# EAGLE library part PCA9685 (library mille-feuille)
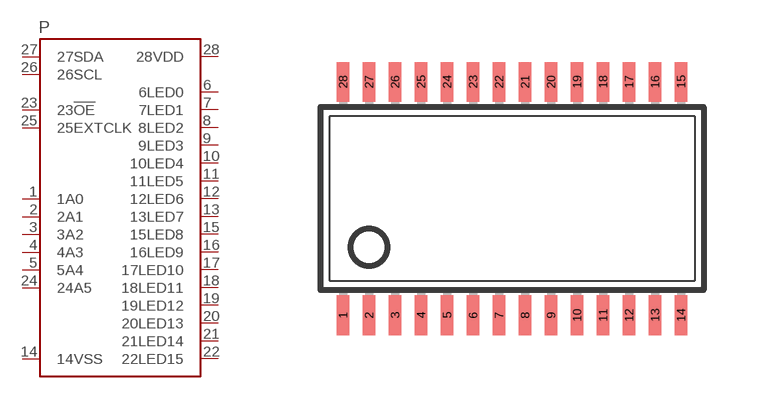
[diagram p14: symbol with the pads of TSSOP28; footprint TSSOP28]

Designator prefix P

## PCA9685  [TSSOP28]
1  1A0
2  2A1
3  3A2
4  4A3
5  5A4
6  6LED0
7  7LED1
8  8LED2
9  9LED3
10  10LED4
11  11LED5
12  12LED6
13  13LED7
14  14VSS
15  15LED8
16  16LED9
17  17LED10
18  18LED11
19  19LED12
20  20LED13
21  21LED14
22  22LED15
23  23!OE
24  24A5
25  25EXTCLK
26  26SCL
27  27SDA
28  28VDD

## Footprint TSSOP28 (pad centres in mm)
smd 0.305 x 0.991: 1 -4.225,-2.918; 2 -3.575,-2.918; 3 -2.925,-2.918; 4 -2.275,-2.918; 5 -1.625,-2.918; 6 -0.975,-2.918; 7 -0.325,-2.918; 8 0.325,-2.918; 9 0.975,-2.918; 10 1.625,-2.918; 11 2.275,-2.918; 12 2.925,-2.918; 13 3.575,-2.918; 14 4.225,-2.918; 15 4.225,2.918; 16 3.575,2.918; 17 2.925,2.918; 18 2.275,2.918; 19 1.625,2.918; 20 0.975,2.918; 21 0.325,2.918; 22 -0.325,2.918; 23 -0.975,2.918; 24 -1.625,2.918; 25 -2.275,2.918; 26 -2.925,2.918; 27 -3.575,2.918; 28 -4.225,2.918